# Altium schematic symbol library C2012X5R1V106K085AC.SchLib: 1 symbol
Pins are listed as number, name and electrical type; pins without a type are passive.

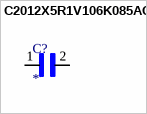
[diagram p0: symbol C2012X5R1V106K085AC]

## C2012X5R1V106K085AC
designator C?
10ÂµF Â±10% 35V Ceramic Capacitor X5R 0805 (2012 Metric); MF: {'manufacturer': u'TDK'}; MP: C2012X5R1V106K085AC; Value: *; Price: None; Availability: Unavailable; Package: None
footprint CAPC2012X100N
pins: 1, 2